# Altium schematic symbol library FTS31XS-U.SchLib: 1 symbol
Pins are listed as number, name and electrical type; pins without a type are passive.

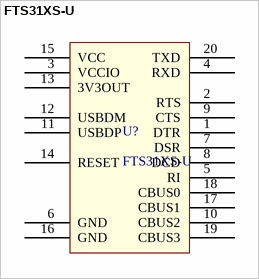
[diagram p0: symbol FTS31XS-U]

## FTS31XS-U
designator U?
footprint SOP64P570X175-20N (SOP, 20-Leads, Body 8.65x3.90mm, Pitch 0.64mm, IPC Medium Density)
pins: 1 DTR, 2 RTS, 3 VCCIO, 4 RXD, 5 RI, 6 GND, 7 DSR, 8 DCD, 9 CTS, 10 CBUS2, 11 USBDP, 12 USBDM, 13 3V3OUT, 14 RESET, 15 VCC, 16 GND, 17 CBUS1, 18 CBUS0, 19 CBUS3, 20 TXD